# Altium integrated library NXP_60_26022015.IntLib: 1306 symbols (part 7 of 28)
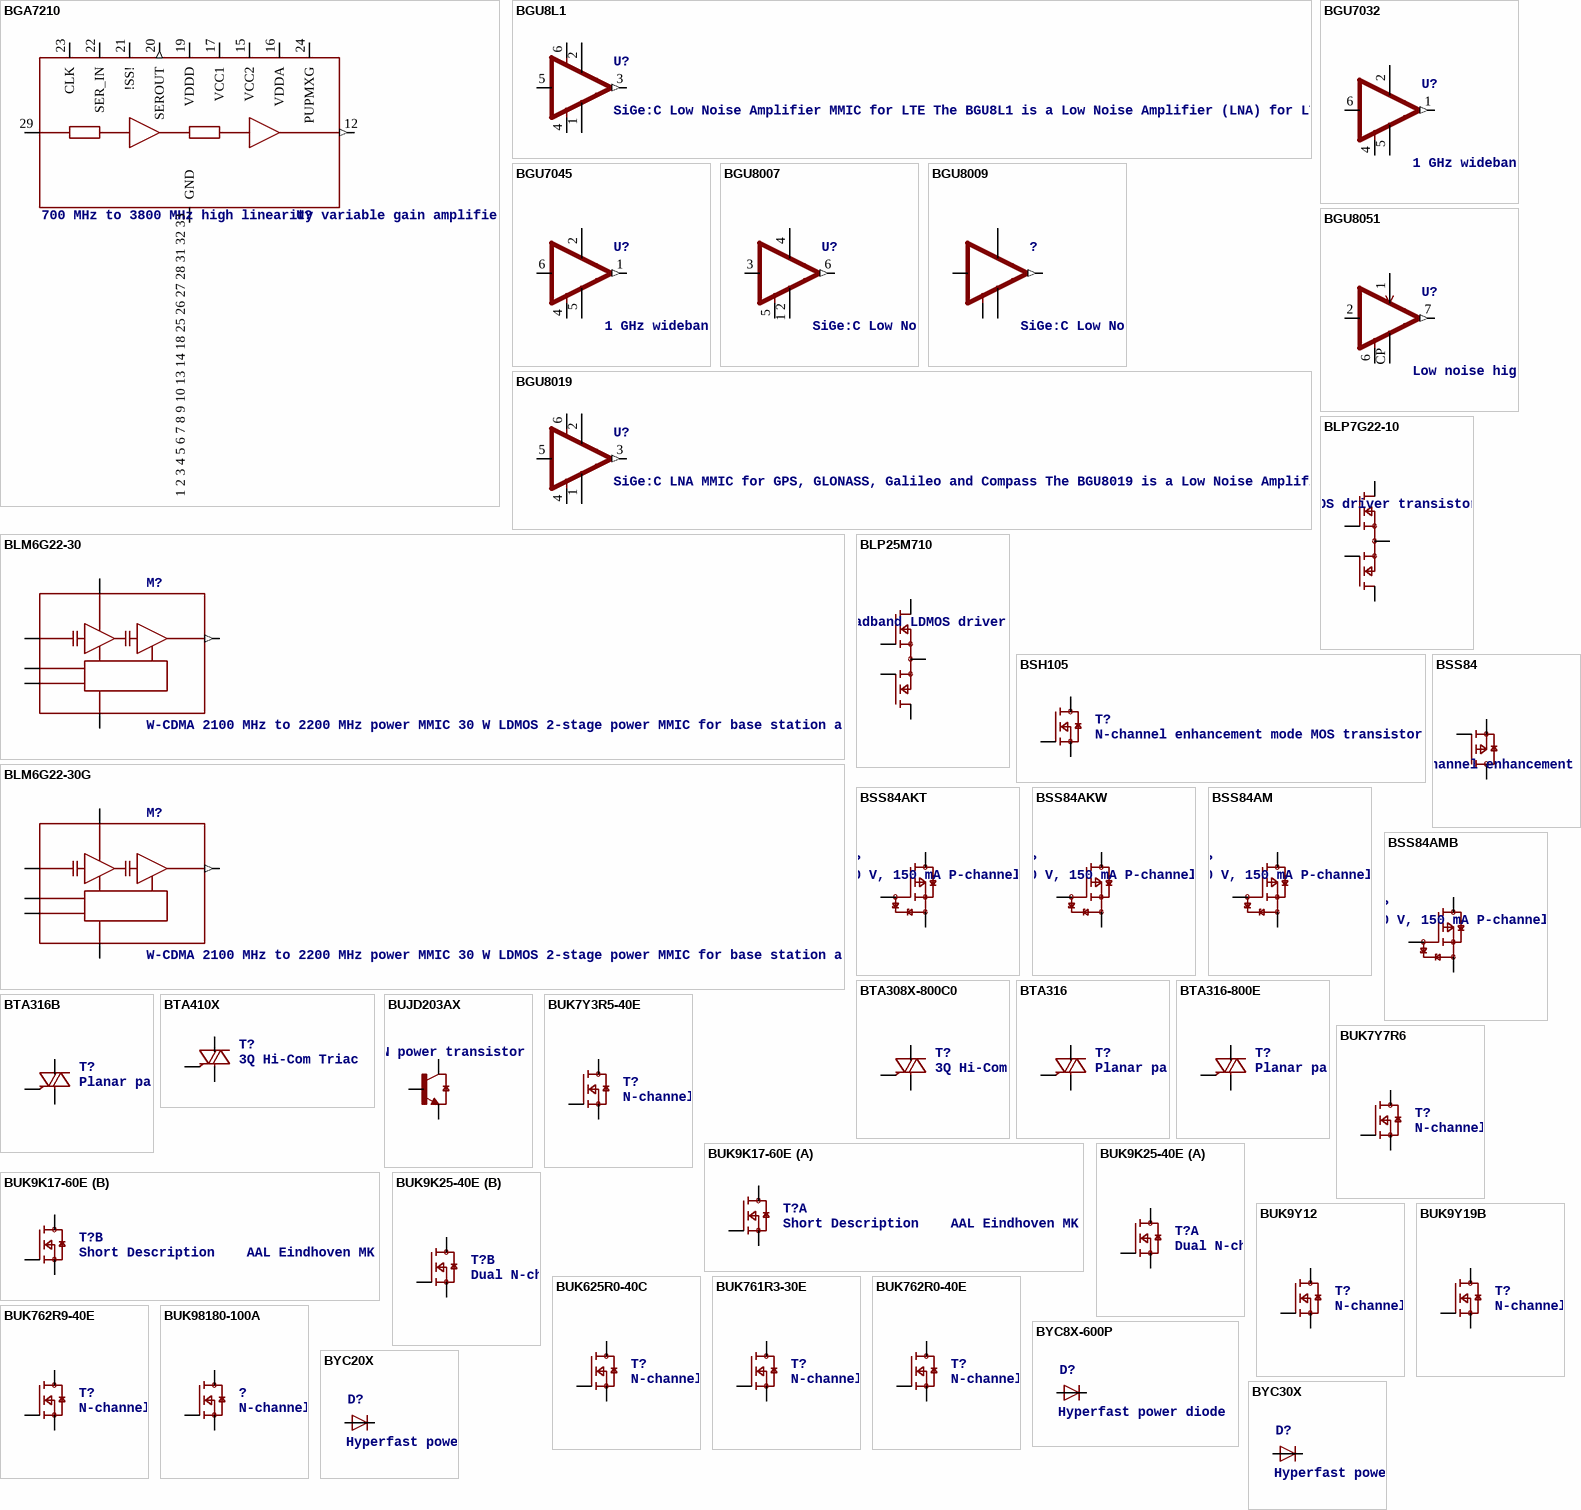
[diagram p191: symbols BGA7210 to BYC30X]

## BGU8L1
designator U?, comment SiGe:C Low Noise Amplifier MMIC for LTE The BGU8L1 is a Low Noise Amplifier (LNA) for LTE receiver applications, available in a small plastic 6-pin extremely thin leadless package. The BGU8L1 requires one external matching inductor. The BGU8L1 adapts itself to the changing environment resulting from co-habitation of different radio systems in modern cellular handsets. It has been designed for low power consumption and optimal performance. At low jamming power levels it delivers 14 dB gain at a noise figure of 0.7 dB. During high power levels, it temporarily increases its bias current to improve sensitivity. The BGU8L1 is optimized for 728 MHz to 960 MHz.   AAL Eindhoven MK
footprint SOT1232
pins: 1 GND (power), 2 VCC (power), 3 OUT (out), 4 GND1 (power), 5 IN, 6 EN

## BGU7032
designator U?, comment 1 GHz wideband low-noise amplifier with bypass The BGU7032 MMIC is a wideband amplifier with bypass mode. It is designed specifically for high linearity, low-noise applications over a frequency range of 40 MHz to 1 GHz. It is especially suited to Set-Top Box applications. The LNA is housed in a 6-pin SOT363 plastic SMD package.    AAL Eindhoven MK
footprint SOT363
pins: 1 OUT (out), 2 VCC (power), 4 CTRL, 5 GND (power), 6 IN

## BGU7045
designator U?, comment 1 GHz wideband low-noise amplifier with bypass The BGU7045 MMIC is a 3.3 V wideband amplifier with bypass mode. It is designed specifically for high linearity, low-noise applications over a frequency range of 40 MHz to 1 GHz. It is especially suited for Set-Top Box applications. The LNA is housed in a 6-pin SOT363 plastic SMD package.    AAL Eindhoven MK
footprint SOT363
pins: 1 OUT (out), 2 VCC (power), 4 CTRL, 5 GND (power), 6 IN

## BGU8007
designator U?, comment SiGe:C Low Noise Amplifier MMIC for GPS, GLONASS, Galileo and Compass The BGU8007 is a Low Noise Amplifier (LNA) for GNSS receiver applications in a plastic leadless 6-pin, extremely small SOT886 package. The BGU8007 requires only one external matching inductor and one external decoupling capacitor. The BGU8007 adapts itself to the changing environment resulting from co-habitation of different radio systems in modern cellular handsets. It has been designed for low power consumption and optimal performance when jamming signals from co-existing cellular transmitters are present. At low jamming power levels it delivers 19 dB gain at a noise figure of 0.75 dB. During high jamming power levels, resulting for example from a cellular transmit burst, it temporarily increases its bias current to improve sensitivity    AAL Eindhoven MK
footprint SOT886
pins: 1 2 GND (power), 3 IN, 4 VCC (power), 5 EN, 6 OUT (out)

## BGU8009
designator ?, comment SiGe:C Low Noise Amplifier MMIC for GPS, GLONASS, Galileo and Compass Rev. 2 — 19 June 2 The BGU8009 is a Low Noise Amplifier (LNA) for GNSS receiver applications, available in a small plastic 6-pin extremely thin leadless package. The BGU8009 requires one external matching inductor and one external decoupling capacitor. The BGU8009 adapts itself to the changing environment resulting from co-habitation of different radio systems in modern cellular handsets. It has been designed for low power consumption and optimal performance when jamming signals from co-existing cellular transmitters are present. At low jamming power levels it delivers 18 dB gain at a noise figure of 0.65 dB. During high jamming power levels, resulting for example from a cellular transmit burst, it temporarily increases its bias current to improve sensitivity    AAL Eindhoven MK
pins: ?1 IN, ?2 OUT (out), ?3 VCC (power), ?4 GND (power), ?5 EN

## BGU8019
designator U?, comment SiGe:C LNA MMIC for GPS, GLONASS, Galileo and Compass The BGU8019 is a Low Noise Amplifier (LNA) for GNSS receiver applications, available in a small plastic 6-pin extremely thin leadless package. The BGU8019 requires one external matching inductor. The BGU8019 adapts itself to the changing environment resulting from co-habitation of different radio systems in modern cellular handsets. It has been designed for low power consumption and optimal performance when jamming signals from co-existing cellular transmitters are present. At low jamming power levels it delivers 18.5 dB gain at a noise figure of 0.55 dB. During high jamming power levels, resulting for example from a cellular transmit burst, it temporarily increases its bias current to improve sensitivity.   AAL Eindhoven MK
footprint SOT1232
pins: 1 GND (power), 2 VCC (power), 3 OUT (out), 4 GND1 (power), 5 IN, 6 EN

## BGU8051
designator U?, comment Low noise high linearity amplifier The BGU8051 is a low noise high linearity amplifier for wireless infrastructure applications, equipped with fast shutdown to support TDD systems. The LNA has a high input and output return loss and is designed to operate between 0.3 GHz and 1.5 GHz. It is housed in a 2 mm x 2 mm x 0.75 mm 8-terminal plastic thin small outline package. The LNA is ESD protected on all terminals.   AAL Eindhoven MK
footprint SOT1327-1
pins: 1 VBIAS, 2 IN, 6 SHDN, 7 OUT (out), CP GND (power)

## BLM6G22-30
designator M?, comment W-CDMA 2100 MHz to 2200 MHz power MMIC 30 W LDMOS 2-stage power MMIC for base station applications at frequencies from 2100 MHz to 2200 MHz. Available in gull wing for surface mount (!SOT822-1!) or flat lead (SOT834-1).    AAL Eindhoven MK
footprint SOT834-1
pins: 1 11 12 16 GND (power), 2 VDS1 (power), 6 RFIN, 9 VGS1, 10 VGS2, 14 RFOUT (out)

## BLM6G22-30G
designator M?, comment W-CDMA 2100 MHz to 2200 MHz power MMIC 30 W LDMOS 2-stage power MMIC for base station applications at frequencies from 2100 MHz to 2200 MHz. Available in gull wing for surface mount (!SOT822-1!) or flat lead (SOT834-1).    AAL Eindhoven MK
footprint SOT822-1
pins: 1 11 12 16 CP GND (power), 2 VDS1 (power), 6 RFIN, 9 VGS1, 10 VGS2, 14 RFOUT (out)

## BLP7G22-10
designator T?, comment LDMOS driver transistor 10W plastic LDMOS power transistor for base station applications at frequencies from 700 MHz to 2700 MHz.    AAL Eindhoven MK
footprint SOT1179-2
pins: 2 3 G1, 4 5 G2, 8 9 D2, 10 11 D1, CP S

## BLP25M710
designator T?, comment Broadband LDMOS driver transistor A 10 W LDMOS power transistor for broadcast and industrial applications in the HF to 2500 MHz band.    AAL Eindhoven MK
footprint SOT1179-2
pins: 2 3 G1, 4 5 G2, 8 9 D2, 10 11 D1, CP S

## BSH105
designator T?, comment N-channel enhancement mode MOS transistor
footprint SOT23
pins: 1 G, 2 S, 3 D

## BSS84
designator T?, comment P-channel enhancement mode vertical DMOS transistor P-channel enhancement mode vertical Diffusion Metal-Oxide Semiconductor (DMOS) transistor in a small Surface-Mounted Device (SMD) plastic package.    AAL Eindhoven MK
footprint SOT23
pins: 1 G, 2 S, 3 D

## BSS84AKT
designator T?, comment 50 V, 150 mA P-channel Trench MOSFET P-channel enhancement mode Field-Effect Transistor (FET) in a small Surface-Mounted Device (SMD) plastic package using Trench MOSFET technology.    AAL Eindhoven MK
footprint SOT416
pins: 1 G, 2 S, 3 D

## BSS84AKW
designator T?, comment 50 V, 150 mA P-channel Trench MOSFET P-channel enhancement mode Field-Effect Transistor (FET) in a small Surface-Mounted Device (SMD) plastic package using Trench MOSFET technology.    AAL Eindhoven MK
footprint SOT323
pins: 1 G, 2 S, 3 D

## BSS84AM
designator T?, comment 50 V, 150 mA P-channel Trench MOSFET P-channel enhancement mode Field-Effect Transistor (FET) in a small Surface-Mounted Device (SMD) plastic package using Trench MOSFET technology.    AAL Eindhoven MK
footprint SOT883(B)
pins: 1 G, 2 S, 3 D

## BSS84AMB
designator T?, comment 50 V, 150 mA P-channel Trench MOSFET P-channel enhancement mode Field-Effect Transistor (FET) in a small Surface-Mounted Device (SMD) plastic package using Trench MOSFET technology.    AAL Eindhoven MK
footprint SOT883(B)
pins: 1 G, 2 S, 3 D

## BTA308X-800C0
designator T?, comment 3Q Hi-Com Triac Planar passivated high commutation three quadrant triac in a SOT186A "full pack" plastic package. This triac is intended for use in motor control circuits where high blocking voltage, high static and dynamic dV/dt as well as high dIcom/dt can occur. This "series C0" triac will commutate the full rated RMS current at the maximum rated junction temperature without the aid of a snubber.    AAL Eindhoven MK
footprint SOT186A
pins: 1 T1, 2 T2, 3 G

## BTA316
designator T?, comment Planar passivated high commutation three quadrant triac in a SOT78 plastic package intended for use in circuits where high static and dynamic dV/dt and high dI/dt can occur   AAL Eindhoven MV+ MK
12NC: 9340 600 72127; 12NC: 9340 600 79127; 12NC: 9340 600 74127; 12NC: 9340 600 76127; 12NC: 9340 600 77127; 12NC: 9340 646 18127; 12NC: 9340 600 73127; 12NC: 9340 600 75127; 12NC: 9340 600 78127; 12NC: 9340 646 19127
footprint SOT78A
pins: 1 T1, 2 T2, 3 G

## BTA316-800E
designator T?, comment Planar passivated high commutation three quadrant triac in a SOT78 plastic package intended for use in circuits where high static and dynamic dV/dt and high dI/dt can occur   AAL Eindhoven MV+ MK
SAMPLEDESK: 12NC934060078127
footprint SOT78A
pins: 1 T1, 2 T2, 3 G

## BTA316B
designator T?, comment Planar passivated high commutation three quadrant triac in a SOT78 plastic package intended for use in circuits where high static and dynamic dV/dt and high dI/dt can occur   AAL Eindhoven MV+ MK
12NC: 9340 601 04118; 12NC: 9340 601 06118; 12NC: 9340 601 08118; 12NC: 9340 601 05118; 12NC: 9340 601 07118; 12NC: 9340 601 09118
footprint SOT404
pins: 1 T1, 3 G, MB T2

## BTA410X
designator T?, comment 3Q Hi-Com Triac
footprint SOT186A
pins: 1 T1, 2 T2, 3 G

## BUJD203AX
designator T?, comment NPN power transistor with integrated diode High voltage, high speed, planar passivated NPN power switching transistor with integrated anti-parallel E-C diode in a SOT186A (TO220F) full pack plastic package.    AAL Eindhoven MK
footprint SOT186A
pins: 1 B, 2 C, 3 E

## BUK7Y3R5-40E
designator T?, comment N-channel 40 V, 3.5 mΩ standard level MOSFET in LFPAK56 Standard level N-channel MOSFET in an LFPAK56 (Power SO8) package using TrenchMOS technology. This product has been designed and qualified to AEC Q101 standard for use in high performance automotive applications.    AAL Eindhoven MK
footprint SOT669
pins: 1 2 3 S, 4 G, MB D

## BUK7Y7R6
designator T?, comment N-channel 40 V, 7.6 mΩ standard level MOSFET in LFPAK56 Standard level N-channel MOSFET in an LFPAK56 (Power SO8) package using TrenchMOS technology. This product has been designed and qualified to AEC Q101 standard for use in high performance automotive applications.   AAL Eindhoven MK
footprint SOT669
pins: 1 2 3 S, 4 G, MB D

## BUK9K17-60E
designator T?, comment Short Description    AAL Eindhoven MK
footprint SOT1205
part A pins: 1 S, 2 G, 7 8 S1 D
part B pins: 3 S, 4 G, 5 6 S2 D

## BUK9K25-40E
designator T?, comment Dual N-channel 40 V, 29 mΩ logic level MOSFET  Dual logic level N-channel MOSFET in an LFPAK56D (Dual Power-SO8) package using TrenchMOS technology. This product has been designed and qualified to AEC Q101 standard for use in high performance automotive applications.    AAL Eindhoven MK
footprint SOT1205
part A pins: 1 S, 2 G, 7 8 S1 D
part B pins: 3 S, 4 G, 5 6 S2 D

## BUK9Y12
designator T?, comment N-channel 100 V, 12 mΩ logic level MOSFET in LFPAK56 Logic level N-channel MOSFET in an LFPAK56 (Power SO8) package using TrenchMOS technology. This product has been designed and qualified to AEC Q101 standard for use in high performance automotive applications.   AAL Eindhoven MK
footprint SOT669
pins: 1 2 3 S, 4 G, MB D

## BUK9Y19B
designator T?, comment N-channel TrenchMOS logic level FET Logic level N-channel enhancement mode Field-Effect Transistor (FET) in a plastic package using TrenchMOS technology.    This product has been designed and qualified to the appropriate AEC standard for use in automotive critical applications.   AAL Eindhoven MK
footprint SOT669
pins: 1 2 3 S, 4 G, MB D

## BUK625R0-40C
designator T?, comment N-channel TrenchMOS intermediate level FET Intermediate level gate drive N-channel enhancement mode Field-Effect Transistor (FET) in a plastic package using advanced TrenchMOS technology. This product has been designed and qualified to the appropriate AEC Q101 standard for use in high performance automotive applications.   AAL Eindhoven MK
footprint SOT428
pins: 1 G, 3 S, MB D

## BUK761R3-30E
designator T?, comment N-channel TrenchMOS standard level FET Standard level N-channel MOSFET in a SOT404 package using TrenchMOS technology. This product has been designed and qualified to AEC Q101 standard for use in high performance automotive applications.   AAL Eindhoven MK
footprint SOT404
pins: 1 G, 3 S, MB D

## BUK762R0-40E
designator T?, comment N-channel TrenchMOS standard level FET Standard level N-channel MOSFET in a SOT404 package using TrenchMOS technology. This product has been designed and qualified to AEC Q101 standard for use in high performance automotive applications.    AAL Eindhoven MK
footprint SOT404
pins: 1 G, 3 S, MB D

## BUK762R9-40E
designator T?, comment N-channel TrenchMOS standard level FET Standard level N-channel MOSFET in a SOT404 package using TrenchMOS technology. This product has been designed and qualified to AEC Q101 standard for use in high performance automotive applications.    AAL Eindhoven MK
footprint SOT404
pins: 1 G, 3 S, MB D

## BUK98180-100A
designator ?, comment N-channel TrenchMOS logic level FET Logic level N-channel enhancement mode Field-Effect Transistor (FET) in a plastic package using TrenchMOS technology. This product has been designed and qualified to the appropriate AEC standard for use in automotive critical applications.    AAL Eindhoven MK
footprint SOT223
pins: 1 G, 2 4 D, 3 S

## BYC8X-600P
designator D?, comment Hyperfast power diode
footprint SOD113
pins: 1 K, 2 A

## BYC20X
designator D?, comment Hyperfast power diode Hyperfast power diode in a SOD113 (2-lead TO-220F) plastic package.    AAL Eindhoven MK
footprint SOD113
pins: 1 K, 2 A

## BYC30X
designator D?, comment Hyperfast power diode Hyperfast power diode in a SOD113 (2-lead TO-220F) plastic package.    AAL Eindhoven MK
footprint SOD113
pins: 1 K, 2 A

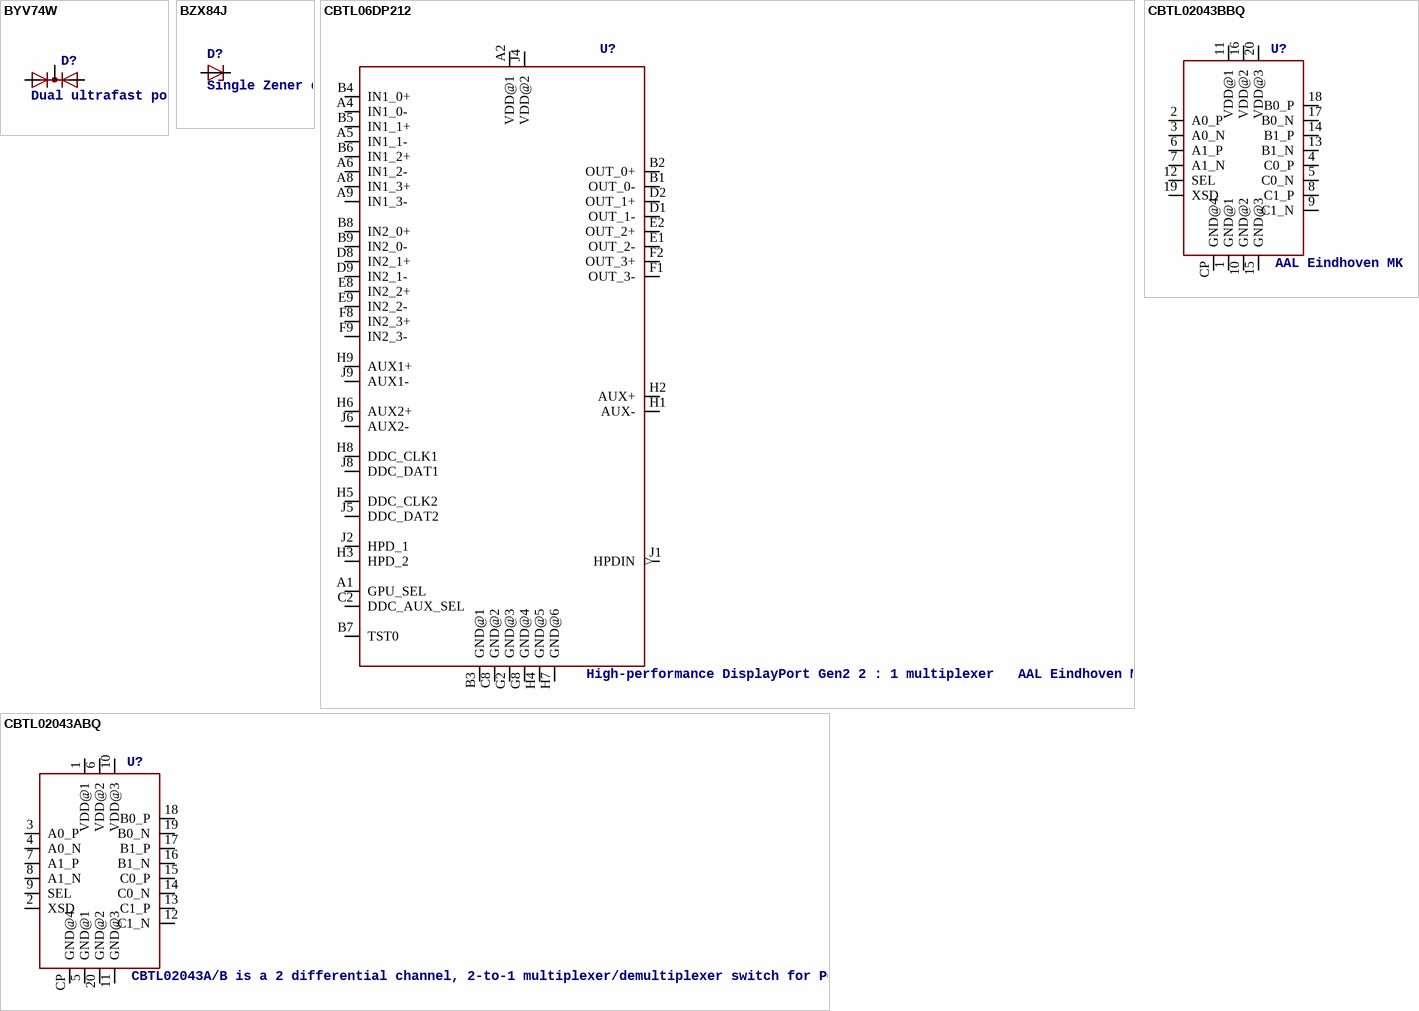
[diagram p35: symbols BYV74W to CBTL02043BBQ]

## BYV74W
designator D?, comment Dual ultrafast power diode Dual ultrafast power diode in a SOT429 (3-lead TO-247) plastic package.    AAL Eindhoven MK
footprint SOT429
pins: 1 A1, 2 K1K2, 3 A2

## BZX84J
designator D?, comment Single Zener diodes General-purpose Zener diodes in a SOD323F (SC-90) very small and flat lead Surface-Mounted Device (SMD) plastic package.    AAL Eindhoven MK
footprint SOD323(F)
pins: 1 C, 2 A

## CBTL06DP212
designator U?, comment High-performance DisplayPort Gen2 2 : 1 multiplexer   AAL Eindhoven MK
footprint SOT918-1
pins: A1 GPU_SEL, A2 VDD@1 (power), A4 IN1_0-, A5 IN1_1-, A6 IN1_2-, A8 IN1_3+, A9 IN1_3-, B1 OUT_0-, B2 OUT_0+, B3 GND@1 (power), B4 IN1_0+, B5 IN1_1+, B6 IN1_2+, B7 TST0, B8 IN2_0+, B9 IN2_0-, C2 DDC_AUX_SEL, C8 GND@2 (power), D1 OUT_1-, D2 OUT_1+, D8 IN2_1+, D9 IN2_1-, E1 OUT_2-, E2 OUT_2+, E8 IN2_2+, E9 IN2_2-, F1 OUT_3-, F2 OUT_3+, F8 IN2_3+, F9 IN2_3-, G2 GND@3 (power), G8 GND@4 (power), H1 AUX-, H2 AUX+, H3 HPD_2, H4 GND@5 (power), H5 DDC_CLK2, H6 AUX2+, H7 GND@6 (power), H8 DDC_CLK1, H9 AUX1+, J1 HPDIN (out), J2 HPD_1, J4 VDD@2 (power), J5 DDC_DAT2, J6 AUX2-, J8 DDC_DAT1, J9 AUX1-

## CBTL02043ABQ
designator U?, comment CBTL02043A/B is a 2 differential channel, 2-to-1 multiplexer/demultiplexer switch for PCI Express Generation 3 (Gen3), or other high-speed serial interface applications. The CBTL02043A/B can switch two differential signals to one of two locations. Using a unique design technique, NXP has minimized the impedance of the switch such that the attenuation observed through the switch is negligible, and also minimized the channel-to-channel skew as well as channel-to-channel crosstalk, as required by the high-speed serial interface. CBTL02043A/B allows expansion of existing high speed ports for extremely low power.   AAL Eindhoven MK
footprint SOT764
pins: 1 VDD@1, 2 XSD, 3 A0_P, 4 A0_N, 5 GND@1, 6 VDD@2, 7 A1_P, 8 A1_N, 9 SEL, 10 VDD@3, 11 GND@3, 12 C1_N, 13 C1_P, 14 C0_N, 15 C0_P, 16 B1_N, 17 B1_P, 18 B0_P, 19 B0_N, 20 GND@2, CP GND@4

## CBTL02043BBQ
designator U?, comment AAL Eindhoven MK
footprint SOT764
pins: 1 GND@1, 2 A0_P, 3 A0_N, 4 C0_P, 5 C0_N, 6 A1_P, 7 A1_N, 8 C1_P, 9 C1_N, 10 GND@2, 11 VDD@1, 12 SEL, 13 B1_N, 14 B1_P, 15 GND@3, 16 VDD@2, 17 B0_N, 18 B0_P, 19 XSD, 20 VDD@3, CP GND@4

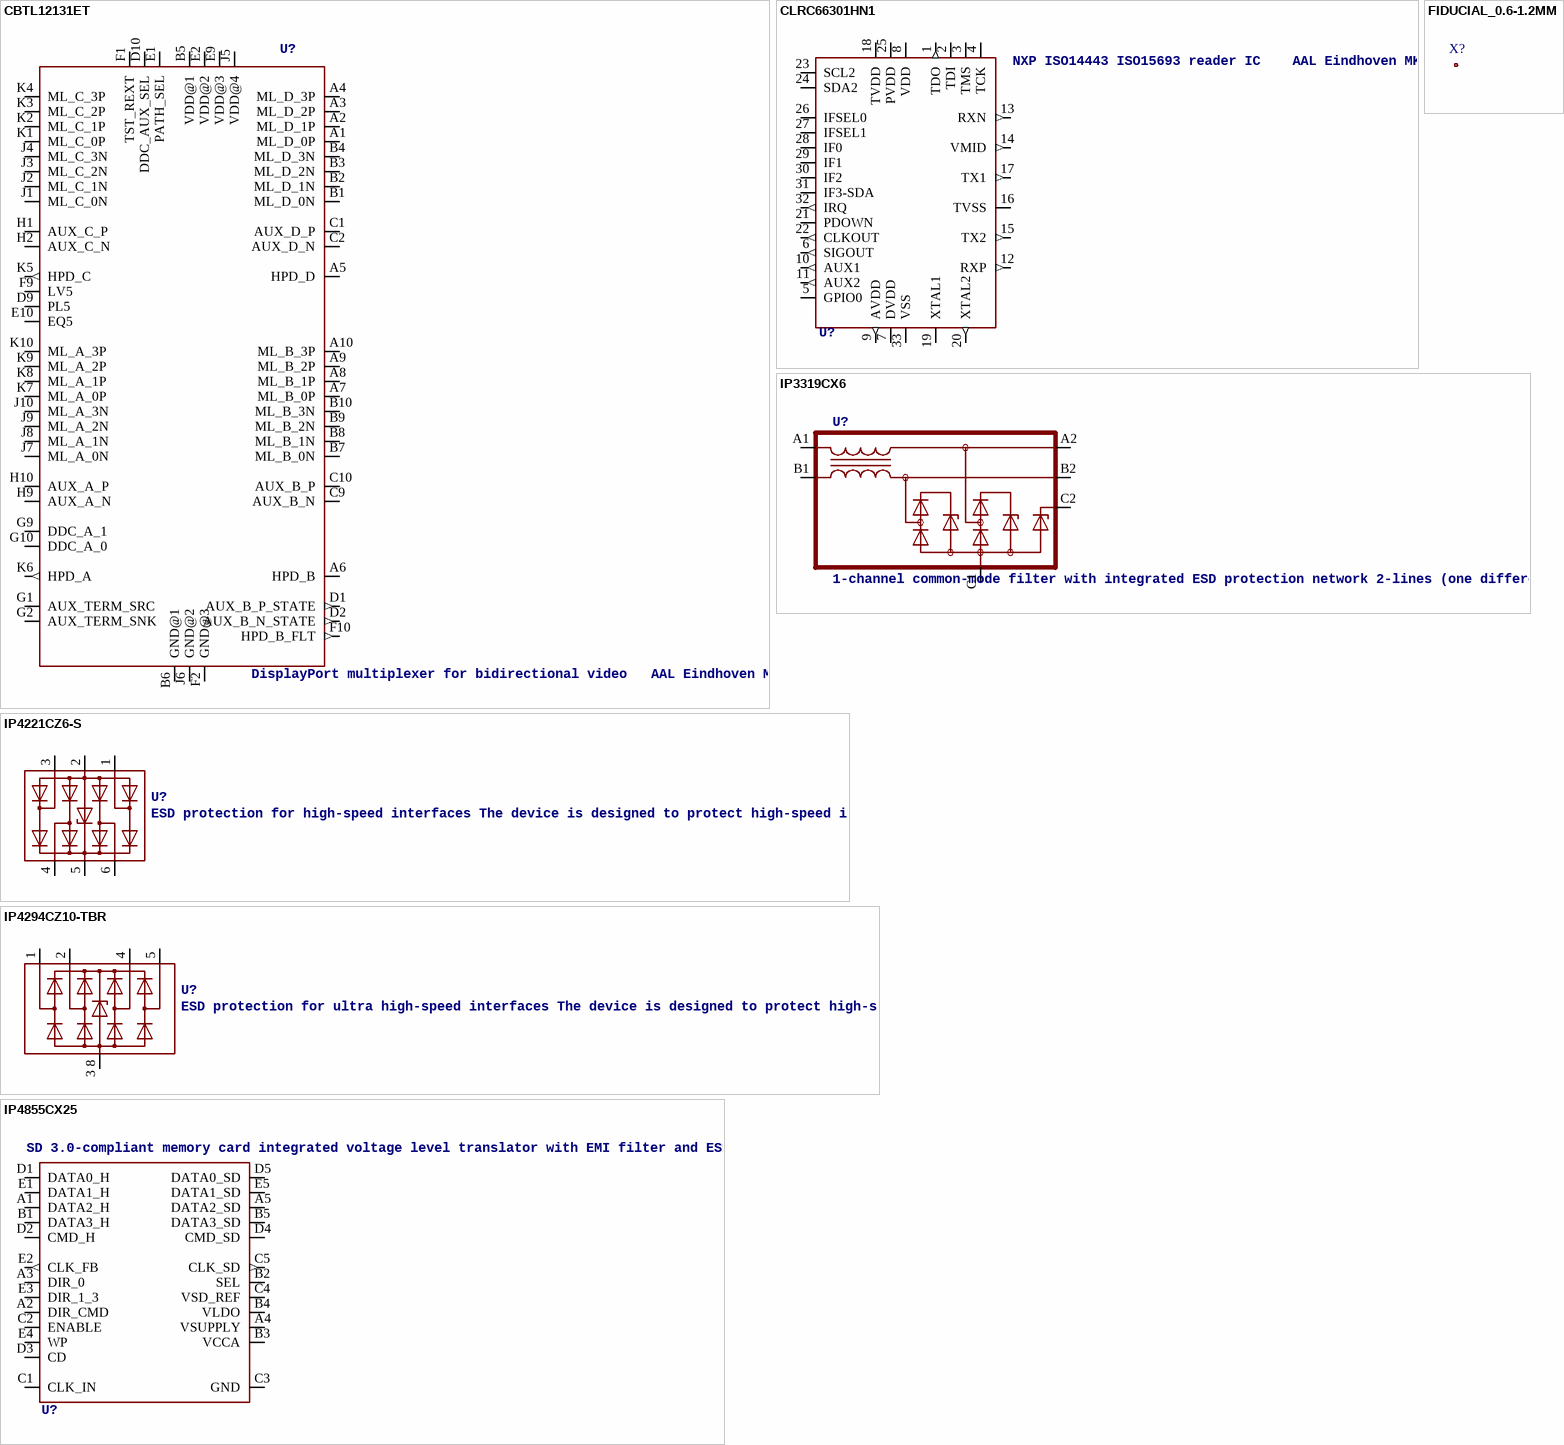
[diagram p36: symbols CBTL12131ET to IP4855CX25]

## CBTL12131ET
designator U?, comment DisplayPort multiplexer for bidirectional video   AAL Eindhoven MK
footprint SOT543-1
pins: A1 ML_D_0P, A2 ML_D_1P, A3 ML_D_2P, A4 ML_D_3P, A5 HPD_D, A6 HPD_B, A7 ML_B_0P, A8 ML_B_1P, A9 ML_B_2P, A10 ML_B_3P, B1 ML_D_0N, B2 ML_D_1N, B3 ML_D_2N, B4 ML_D_3N, B5 VDD@1 (power), B6 GND@1 (power), B7 ML_B_0N, B8 ML_B_1N, B9 ML_B_2N, B10 ML_B_3N, C1 AUX_D_P, C2 AUX_D_N, C9 AUX_B_N, C10 AUX_B_P, D1 AUX_B_P_STATE (out), D2 AUX_B_N_STATE (out), D9 PL5, D10 DDC_AUX_SEL, E1 PATH_SEL, E2 VDD@2 (power), E9 VDD@3 (power), E10 EQ5, F1 TST_REXT, F2 GND@3 (power), F9 LV5, F10 HPD_B_FLT (out), G1 AUX_TERM_SRC, G2 AUX_TERM_SNK, G9 DDC_A_1, G10 DDC_A_0, H1 AUX_C_P, H2 AUX_C_N, H9 AUX_A_N, H10 AUX_A_P, J1 ML_C_0N, J2 ML_C_1N, J3 ML_C_2N, J4 ML_C_3N, J5 VDD@4 (power), J6 GND@2 (power), J7 ML_A_0N, J8 ML_A_1N, J9 ML_A_2N, J10 ML_A_3N, K1 ML_C_0P, K2 ML_C_1P, K3 ML_C_2P, K4 ML_C_3P, K5 HPD_C (out), K6 HPD_A (out), K7 ML_A_0P, K8 ML_A_1P, K9 ML_A_2P, K10 ML_A_3P

## CLRC66301HN1
designator U?, comment NXP ISO14443 ISO15693 reader IC    AAL Eindhoven MK
footprint SOT617-1
pins: 1 TDO (out), 2 TDI, 3 TMS, 4 TCK, 5 GPIO0, 6 SIGOUT (out), 7 DVDD (power), 8 VDD (power), 9 AVDD (out), 10 AUX1 (out), 11 AUX2 (out), 12 RXP (out), 13 RXN (out), 14 VMID (out), 15 TX2 (out), 16 TVSS (power), 17 TX1 (out), 18 TVDD (power), 19 XTAL1, 20 XTAL2 (out), 21 PDOWN, 22 CLKOUT (out), 23 SCL2, 24 SDA2, 25 PVDD (power), 26 IFSEL0, 27 IFSEL1, 28 IF0, 29 IF1, 30 IF2, 31 IF3-SDA, 32 IRQ (out), 33 VSS (power)

## FIDUCIAL_0.6-1.2MM
designator X?
footprint FIDUCIAL0.6-1.2

## IP3319CX6
designator U?, comment 1-channel common-mode filter with integrated ESD protection network 2-lines (one differential channel) common-mode filter with integrated ESD protection up to 15 kV contact discharge, exceeding IEC 61000-4-2, level 4. The device can eliminate efficiently common-mode noise from USB 2.0 and other high-speed interfaces with differential lines. IP3319CX6 attenuates significantly common-mode noise above 800 MHz while differential-mode signal extends out to more than 1 GHz before reaching the 3 dB point. IP3319CX6 is designed to protect sensitive I/Os, such as USB 2.0, Ethernet, Digital Video Interface (DVI) and Low-Voltage Differential Signaling (LVDS) interfaces from destruction by ElectroStatic Discharge (ESD). IP3319CX6 is a combination of an integrated copper-coils common-mode filter and a monolithic silicon technology-based ESD protection. It integrates two ultra-low capacitance rail-to-rail diodes plus a separated protection diode in a 0.4 mm pitch Wafer-Level Chip-Size Package (WLCSP). Due to the rail-to-rail concept, the protection is working independently from availability of a supply voltage.    AAL Eindhoven MK
footprint WLCSP6_2X3
pins: A1, A2, B1, B2, C1 (power), C2

## IP4221CZ6-S
designator U?, comment ESD protection for high-speed interfaces The device is designed to protect high-speed interfaces such as USB 2.0, Ethernet and Digital Visual Interface (DVI) against ElectroStatic Discharge (ESD). The device includes four high-level ESD protection diode structures for high-speed signal lines and is encapsulated in a leadless ultra small DFN1410-6 (SOT886) plastic package. Special diode configuration protects all signal lines and offers ultra low line capacitance of only 1 pF. The rail-to-rail diodes are connected to the Zener diode which allows ESD protection to be independent of supply voltage.    AAL Eindhoven MK
footprint SOT886
pins: 1 ESD3, 2 GND (power), 3 ESD4, 4 ESD1, 5 VCC (power), 6 ESD2

## IP4294CZ10-TBR
designator U?, comment ESD protection for ultra high-speed interfaces The device is designed to protect high-speed interfaces such as SuperSpeed USB, High-Definition Multimedia Interface (HDMI), DisplayPort, external Serial Advanced Technology Attachment (eSATA) and Low Voltage Differential Signaling (LVDS) interfaces against ElectroStatic Discharge (ESD). The device includes four high-level ESD protection diode structures for ultra high-speed signal lines and is encapsulated in leadless ultra small DFN2510A-10 (SOT1176-1) plastic package. All signal lines are protected by a special diode configuration offering ultra low line capacitance of only 0.5 pF. These diodes utilize a unique snap-back structure in order to provide protection to downstream components from ESD voltages up to 10 kV contact exceeding IEC 61000-4-2, level 4. In order to reduce the capacitance variation versus channel DC voltage, the ground diodes between each channel and ground pins 3 and 8 are implemented as Shockley diodes.    AAL Eindhoven MK
footprint SOT1176
pins: 1 ESD1, 2 ESD2, 3 8 GND (power), 4 ESD3, 5 ESD4

## IP4855CX25
designator U?, comment SD 3.0-compliant memory card integrated voltage level translator with EMI filter and ESD protection The device is an SD 3.0-compliant 6-bit bidirectional dual voltage level translator. It is designed to interface between a memory card operating at 1.8 V or 2.9 V signal levels and a host with a fixed nominal supply voltage of 1.2 V to 3.3 V. The device supports SD 3.0 SDR50, DDR50, SDR25, SDR12 and SD 2.0 High-Speed (50 MHz) and Default-Speed (25 MHz) modes. The device has an integrated switchable voltage regulator to supply the card-side I/Os, built-in EMI filters and robust ESD protections (IEC 61000-4-2, level 4).    AAL Eindhoven MK
footprint WLCSP25
pins: A1 DATA2_H, A2 DIR_CMD, A3 DIR_0, A4 VSUPPLY (power), A5 DATA2_SD, B1 DATA3_H, B2 SEL, B3 VCCA (power), B4 VLDO (power), B5 DATA3_SD, C1 CLK_IN, C2 ENABLE, C3 GND (power), C4 VSD_REF, C5 CLK_SD (out), D1 DATA0_H, D2 CMD_H, D3 CD, D4 CMD_SD, D5 DATA0_SD, E1 DATA1_H, E2 CLK_FB (out), E3 DIR_1_3, E4 WP, E5 DATA1_SD

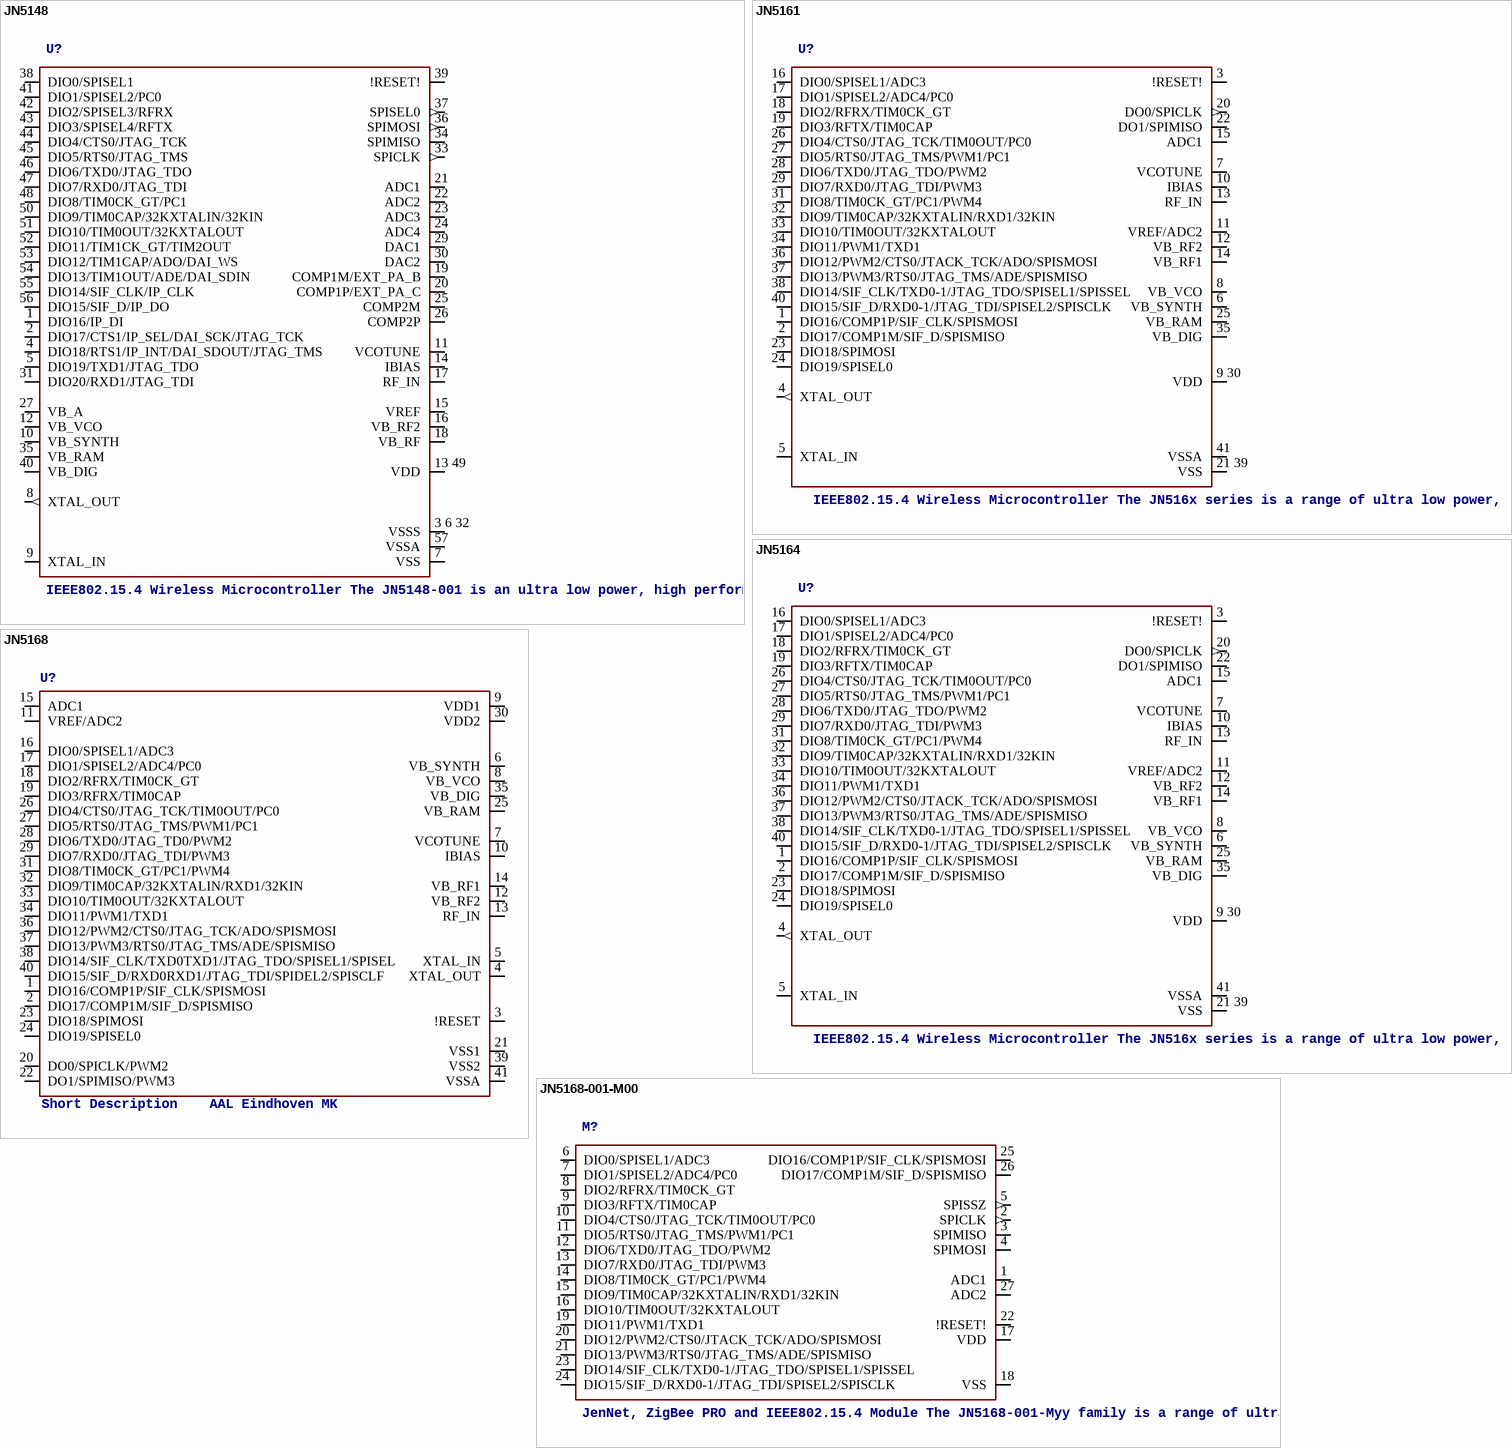
[diagram p37: symbols JN5148 to JN5168-001-M00]

## JN5148
designator U?, comment IEEE802.15.4 Wireless Microcontroller The JN5148-001 is an ultra low power, high performance wireless microcontroller targeted at JenNet and ZigBee PRO networking applications. The device features an enhanced 32-bit RISC processor offering high coding efficiency through variable width instructions, a multistage instruction pipeline and low power operation with programmable clock speeds. It also includes a 2.4GHz IEEE802.15.4 compliant transceiver, 128kB of ROM, 128kB of RAM, and a rich mix of analogue and digital peripherals. The large memory footprint allows the device to run both a network stack (e.g. ZigBee PRO) and an embedded application or in a coprocessor mode. The operating current is below 18mA, allowing operation direct from a coin cell. Enhanced peripherals include low power pulse counters running in sleep mode designed for pulse counting in AMR applications and a unique Time of Flight ranging engine, allowing accurate location services to be implemented on wireless sensor networks. It also includes a 4-wire I2S audio interface, to interface directly    AAL Eindhoven MK
footprint SOT684
pins: 1 DIO16/IP_DI, 2 DIO17/CTS1/IP_SEL/DAI_SCK/JTAG_TCK, 3 6 32 VSSS, 4 DIO18/RTS1/IP_INT/DAI_SDOUT/JTAG_TMS, 5 DIO19/TXD1/JTAG_TDO, 7 VSS (power), 8 XTAL_OUT (out), 9 XTAL_IN, 10 VB_SYNTH (power), 11 VCOTUNE, 12 VB_VCO (power), 13 49 VDD, 14 IBIAS, 15 VREF, 16 VB_RF2 (power), 17 RF_IN, 18 VB_RF (power), 19 COMP1M/EXT_PA_B, 20 COMP1P/EXT_PA_C, 21 ADC1, 22 ADC2, 23 ADC3, 24 ADC4, 25 COMP2M, 26 COMP2P, 27 VB_A (power), 29 DAC1, 30 DAC2, 31 DIO20/RXD1/JTAG_TDI, 33 SPICLK (out), 34 SPIMISO, 35 VB_RAM (power), 36 SPIMOSI (out), 37 SPISEL0 (out), 38 DIO0/SPISEL1, 39 !RESET!, 40 VB_DIG (power), 41 DIO1/SPISEL2/PC0, 42 DIO2/SPISEL3/RFRX, 43 DIO3/SPISEL4/RFTX, 44 DIO4/CTS0/JTAG_TCK, 45 DIO5/RTS0/JTAG_TMS, 46 DIO6/TXD0/JTAG_TDO, 47 DIO7/RXD0/JTAG_TDI, 48 DIO8/TIM0CK_GT/PC1, 50 DIO9/TIM0CAP/32KXTALIN/32KIN, 51 DIO10/TIM0OUT/32KXTALOUT, 52 DIO11/TIM1CK_GT/TIM2OUT, 53 DIO12/TIM1CAP/ADO/DAI_WS, 54 DIO13/TIM1OUT/ADE/DAI_SDIN, 55 DIO14/SIF_CLK/IP_CLK, 56 DIO15/SIF_D/IP_DO, 57 VSSA (power)

## JN5161
designator U?, comment IEEE802.15.4 Wireless Microcontroller The JN516x series is a range of ultra low power, high performance wireless microcontrollers suitable for JenNet-IP, ZigBee PRO, Remote Control, JenNet, and Active RFID applications. They feature an enhanced 32-bit RISC processor with embedded Flash and EEPROM memory, offering high coding efficiency through variable width instructions, a multi-stage instruction pipeline and low power operation with programmable clock speeds. They also include a 2.4GHz IEEE802.15.4 compliant transceiver and a comprehensive mix of analogue and digital peripherals. Three memory configurations are available to suit different applications. The best in class operating current is below 15mA, and, with a 0.6uA sleep timer mode, gives excellent battery life allowing operation direct from a coin cell. The peripherals support a wide range of applications. They include a 2-wire I2C, and SPI ports which can operate as either master or slave, a four channel ADC with battery and a temperature sensor. It can support a large switch matrix of up to 100 elements, or alternatively a 40 key capacitive touch pad.    AAL Eindhoven MK
EEPROM: 4kB; FLASH: 64kB; RAM: 8kB
footprint SOT618-1
pins: 1 DIO16/COMP1P/SIF_CLK/SPISMOSI, 2 DIO17/COMP1M/SIF_D/SPISMISO, 3 !RESET!, 4 XTAL_OUT (out), 5 XTAL_IN, 6 VB_SYNTH (power), 7 VCOTUNE, 8 VB_VCO (power), 9 30 VDD, 10 IBIAS, 11 VREF/ADC2, 12 VB_RF2 (power), 13 RF_IN, 14 VB_RF1 (power), 15 ADC1, 16 DIO0/SPISEL1/ADC3, 17 DIO1/SPISEL2/ADC4/PC0, 18 DIO2/RFRX/TIM0CK_GT, 19 DIO3/RFTX/TIM0CAP, 20 DO0/SPICLK (out), 21 39 VSS (power), 22 DO1/SPIMISO, 23 DIO18/SPIMOSI, 24 DIO19/SPISEL0, 25 VB_RAM (power), 26 DIO4/CTS0/JTAG_TCK/TIM0OUT/PC0, 27 DIO5/RTS0/JTAG_TMS/PWM1/PC1, 28 DIO6/TXD0/JTAG_TDO/PWM2, 29 DIO7/RXD0/JTAG_TDI/PWM3, 31 DIO8/TIM0CK_GT/PC1/PWM4, 32 DIO9/TIM0CAP/32KXTALIN/RXD1/32KIN, 33 DIO10/TIM0OUT/32KXTALOUT, 34 DIO11/PWM1/TXD1, 35 VB_DIG (power), 36 DIO12/PWM2/CTS0/JTACK_TCK/ADO/SPISMOSI, 37 DIO13/PWM3/RTS0/JTAG_TMS/ADE/SPISMISO, 38 DIO14/SIF_CLK/TXD0-1/JTAG_TDO/SPISEL1/SPISSEL, 40 DIO15/SIF_D/RXD0-1/JTAG_TDI/SPISEL2/SPISCLK, 41 VSSA (power)

## JN5164
designator U?, comment IEEE802.15.4 Wireless Microcontroller The JN516x series is a range of ultra low power, high performance wireless microcontrollers suitable for JenNet-IP, ZigBee PRO, Remote Control, JenNet, and Active RFID applications. They feature an enhanced 32-bit RISC processor with embedded Flash and EEPROM memory, offering high coding efficiency through variable width instructions, a multi-stage instruction pipeline and low power operation with programmable clock speeds. They also include a 2.4GHz IEEE802.15.4 compliant transceiver and a comprehensive mix of analogue and digital peripherals. Three memory configurations are available to suit different applications. The best in class operating current is below 15mA, and, with a 0.6uA sleep timer mode, gives excellent battery life allowing operation direct from a coin cell. The peripherals support a wide range of applications. They include a 2-wire I2C, and SPI ports which can operate as either master or slave, a four channel ADC with battery and a temperature sensor. It can support a large switch matrix of up to 100 elements, or alternatively a 40 key capacitive touch pad.    AAL Eindhoven MK
EEPROM: 4kB; FLASH: 160kB; RAM: 32kB
footprint SOT618-1
pins: 1 DIO16/COMP1P/SIF_CLK/SPISMOSI, 2 DIO17/COMP1M/SIF_D/SPISMISO, 3 !RESET!, 4 XTAL_OUT (out), 5 XTAL_IN, 6 VB_SYNTH (power), 7 VCOTUNE, 8 VB_VCO (power), 9 30 VDD, 10 IBIAS, 11 VREF/ADC2, 12 VB_RF2 (power), 13 RF_IN, 14 VB_RF1 (power), 15 ADC1, 16 DIO0/SPISEL1/ADC3, 17 DIO1/SPISEL2/ADC4/PC0, 18 DIO2/RFRX/TIM0CK_GT, 19 DIO3/RFTX/TIM0CAP, 20 DO0/SPICLK (out), 21 39 VSS (power), 22 DO1/SPIMISO, 23 DIO18/SPIMOSI, 24 DIO19/SPISEL0, 25 VB_RAM (power), 26 DIO4/CTS0/JTAG_TCK/TIM0OUT/PC0, 27 DIO5/RTS0/JTAG_TMS/PWM1/PC1, 28 DIO6/TXD0/JTAG_TDO/PWM2, 29 DIO7/RXD0/JTAG_TDI/PWM3, 31 DIO8/TIM0CK_GT/PC1/PWM4, 32 DIO9/TIM0CAP/32KXTALIN/RXD1/32KIN, 33 DIO10/TIM0OUT/32KXTALOUT, 34 DIO11/PWM1/TXD1, 35 VB_DIG (power), 36 DIO12/PWM2/CTS0/JTACK_TCK/ADO/SPISMOSI, 37 DIO13/PWM3/RTS0/JTAG_TMS/ADE/SPISMISO, 38 DIO14/SIF_CLK/TXD0-1/JTAG_TDO/SPISEL1/SPISSEL, 40 DIO15/SIF_D/RXD0-1/JTAG_TDI/SPISEL2/SPISCLK, 41 VSSA (power)

## JN5168
designator U?, comment Short Description    AAL Eindhoven MK
footprint SOT618-1
pins: 1 DIO16/COMP1P/SIF_CLK/SPISMOSI, 2 DIO17/COMP1M/SIF_D/SPISMISO, 3 !RESET, 4 XTAL_OUT, 5 XTAL_IN, 6 VB_SYNTH, 7 VCOTUNE, 8 VB_VCO, 9 VDD1, 10 IBIAS, 11 VREF/ADC2, 12 VB_RF2, 13 RF_IN, 14 VB_RF1, 15 ADC1, 16 DIO0/SPISEL1/ADC3, 17 DIO1/SPISEL2/ADC4/PC0, 18 DIO2/RFRX/TIM0CK_GT, 19 DIO3/RFRX/TIM0CAP, 20 DO0/SPICLK/PWM2, 21 VSS1, 22 DO1/SPIMISO/PWM3, 23 DIO18/SPIMOSI, 24 DIO19/SPISEL0, 25 VB_RAM, 26 DIO4/CTS0/JTAG_TCK/TIM0OUT/PC0, 27 DIO5/RTS0/JTAG_TMS/PWM1/PC1, 28 DIO6/TXD0/JTAG_TD0/PWM2, 29 DIO7/RXD0/JTAG_TDI/PWM3, 30 VDD2, 31 DIO8/TIM0CK_GT/PC1/PWM4, 32 DIO9/TIM0CAP/32KXTALIN/RXD1/32KIN, 33 DIO10/TIM0OUT/32KXTALOUT, 34 DIO11/PWM1/TXD1, 35 VB_DIG, 36 DIO12/PWM2/CTS0/JTAG_TCK/ADO/SPISMOSI, 37 DIO13/PWM3/RTS0/JTAG_TMS/ADE/SPISMISO, 38 DIO14/SIF_CLK/TXD0TXD1/JTAG_TDO/SPISEL1/SPISEL, 39 VSS2, 40 DIO15/SIF_D/RXD0RXD1/JTAG_TDI/SPIDEL2/SPISCLF, 41 VSSA

## JN5168-001-M00
designator M?, comment JenNet, ZigBee PRO and IEEE802.15.4 Module The JN5168-001-Myy family is a range of ultra low power, high performance surface mount modules targeted at IEEE 802.15.4, JenNet-IP, ZigBee Light Link, ZigBee Smart Energy and RF4CE networking applications, enabling users to realise products with minimum time to market and at the lowest cost.  They remove the need for expensive and lengthy development of custom RF board designs and test suites. The modules use NXP’s JN5168 wireless microcontroller to provide a comprehensive solution with large memory, high CPU and radio performance and all RF components included.  All that is required to develop and manufacture wireless control or sensing products is to connect a power supply and peripherals such as switches, actuators and sensors, considerably simplifying product development. Four module variants are available: JN5168-001-M00 with an integrated antenna, JN5168-001- M03 with an antenna connector and the JN5168-001-M05 and M06 with an antenna connector, power amplifier and LNA for extended range. The JN5168-001-M05 output power has been optimised for use in Europe and Asia.    AAL Eindhoven MK
DIO2: OK; DIO3: OK
footprint JN5168-001-M00
pins: 1 ADC1, 2 SPICLK (out), 3 SPIMISO, 4 SPIMOSI, 5 SPISSZ (out), 6 DIO0/SPISEL1/ADC3, 7 DIO1/SPISEL2/ADC4/PC0, 8 DIO2/RFRX/TIM0CK_GT, 9 DIO3/RFTX/TIM0CAP, 10 DIO4/CTS0/JTAG_TCK/TIM0OUT/PC0, 11 DIO5/RTS0/JTAG_TMS/PWM1/PC1, 12 DIO6/TXD0/JTAG_TDO/PWM2, 13 DIO7/RXD0/JTAG_TDI/PWM3, 14 DIO8/TIM0CK_GT/PC1/PWM4, 15 DIO9/TIM0CAP/32KXTALIN/RXD1/32KIN, 16 DIO10/TIM0OUT/32KXTALOUT, 17 VDD, 18 VSS (power), 19 DIO11/PWM1/TXD1, 20 DIO12/PWM2/CTS0/JTACK_TCK/ADO/SPISMOSI, 21 DIO13/PWM3/RTS0/JTAG_TMS/ADE/SPISMISO, 22 !RESET!, 23 DIO14/SIF_CLK/TXD0-1/JTAG_TDO/SPISEL1/SPISSEL, 24 DIO15/SIF_D/RXD0-1/JTAG_TDI/SPISEL2/SPISCLK, 25 DIO16/COMP1P/SIF_CLK/SPISMOSI, 26 DIO17/COMP1M/SIF_D/SPISMISO, 27 ADC2

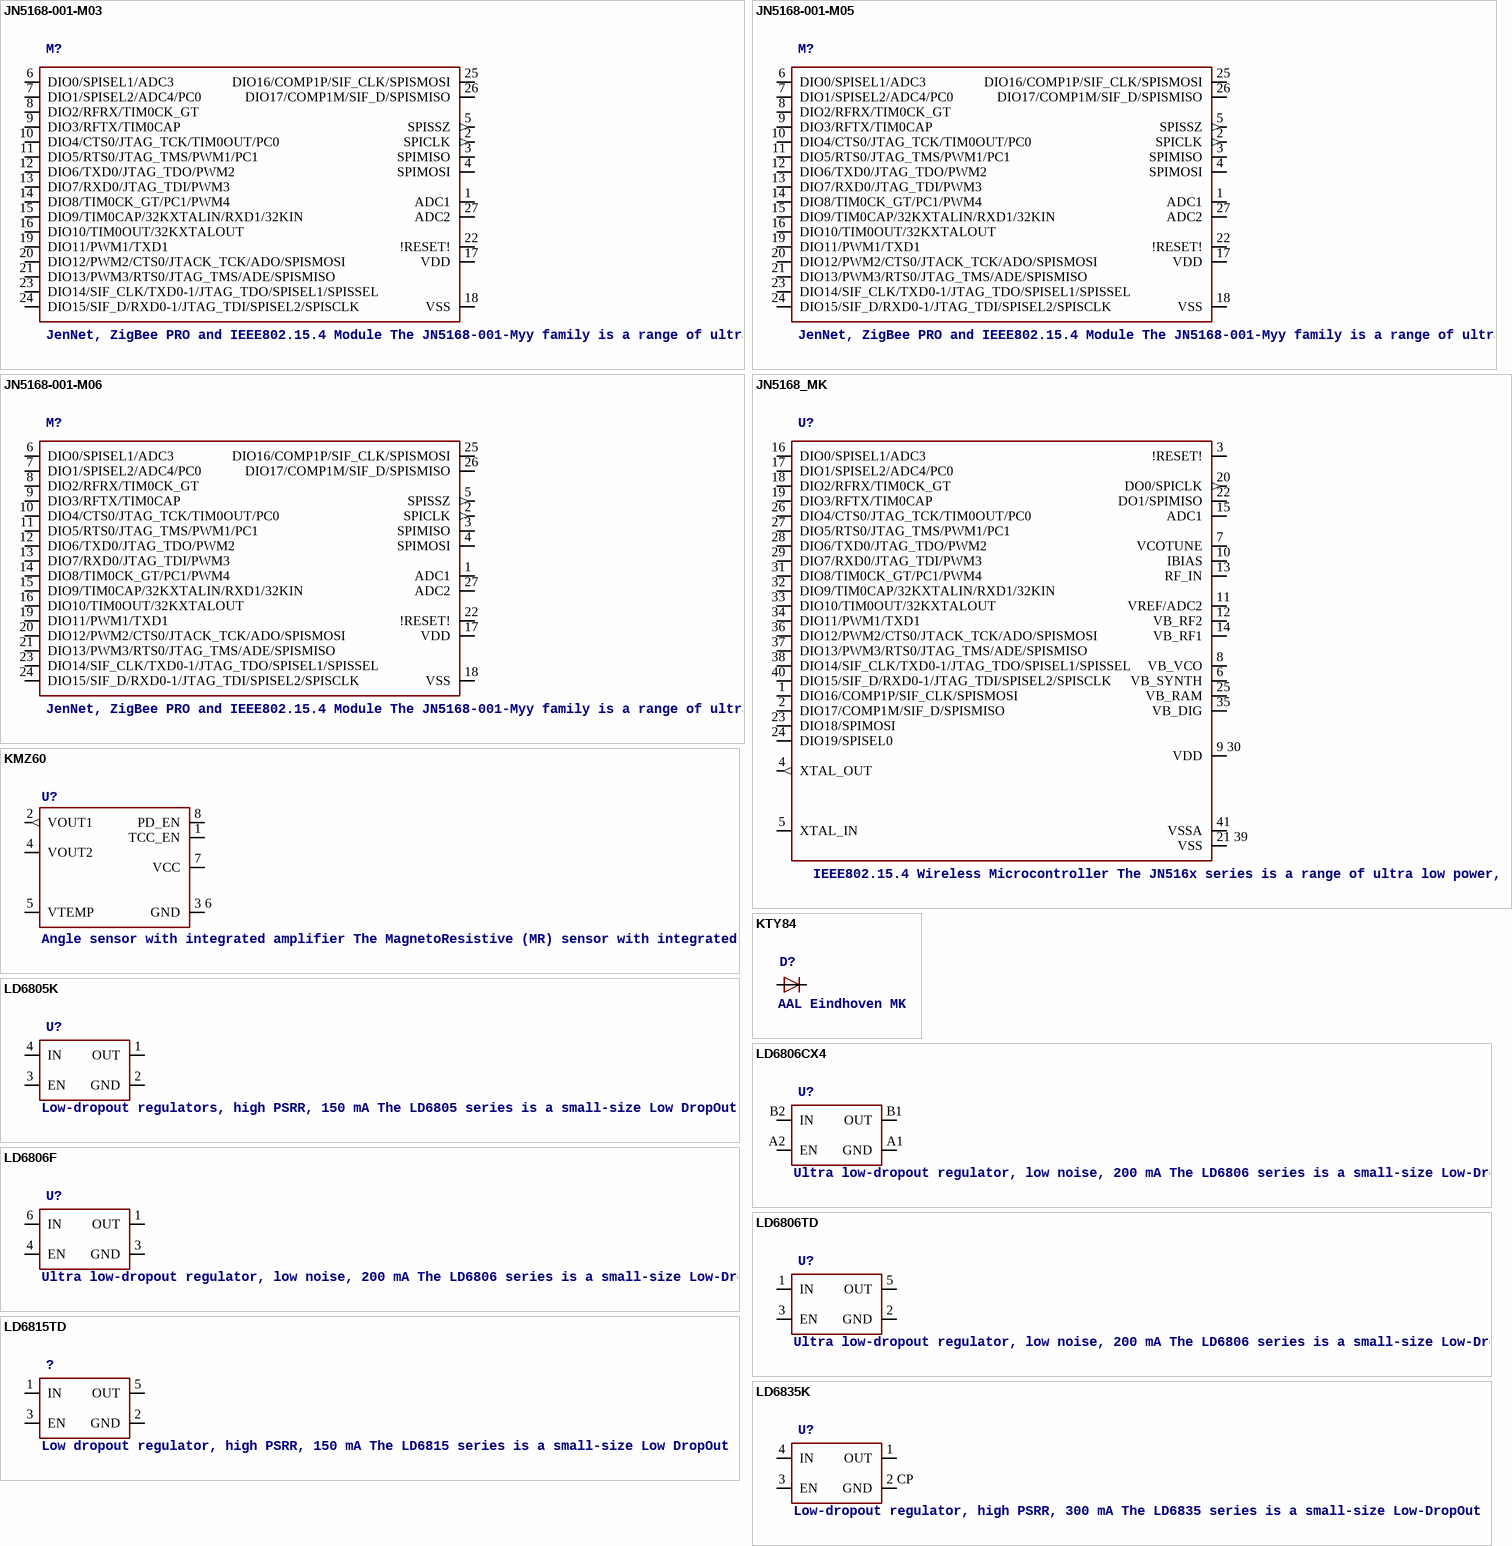
[diagram p38: symbols JN5168-001-M03 to LD6835K]

## JN5168-001-M03
designator M?, comment JenNet, ZigBee PRO and IEEE802.15.4 Module The JN5168-001-Myy family is a range of ultra low power, high performance surface mount modules targeted at IEEE 802.15.4, JenNet-IP, ZigBee Light Link, ZigBee Smart Energy and RF4CE networking applications, enabling users to realise products with minimum time to market and at the lowest cost.  They remove the need for expensive and lengthy development of custom RF board designs and test suites. The modules use NXP’s JN5168 wireless microcontroller to provide a comprehensive solution with large memory, high CPU and radio performance and all RF components included.  All that is required to develop and manufacture wireless control or sensing products is to connect a power supply and peripherals such as switches, actuators and sensors, considerably simplifying product development. Four module variants are available: JN5168-001-M00 with an integrated antenna, JN5168-001- M03 with an antenna connector and the JN5168-001-M05 and M06 with an antenna connector, power amplifier and LNA for extended range. The JN5168-001-M05 output power has been optimised for use in Europe and Asia.    AAL Eindhoven MK
DIO2: OK; DIO3: OK
footprint JN5168-001-M03
pins: 1 ADC1, 2 SPICLK (out), 3 SPIMISO, 4 SPIMOSI, 5 SPISSZ (out), 6 DIO0/SPISEL1/ADC3, 7 DIO1/SPISEL2/ADC4/PC0, 8 DIO2/RFRX/TIM0CK_GT, 9 DIO3/RFTX/TIM0CAP, 10 DIO4/CTS0/JTAG_TCK/TIM0OUT/PC0, 11 DIO5/RTS0/JTAG_TMS/PWM1/PC1, 12 DIO6/TXD0/JTAG_TDO/PWM2, 13 DIO7/RXD0/JTAG_TDI/PWM3, 14 DIO8/TIM0CK_GT/PC1/PWM4, 15 DIO9/TIM0CAP/32KXTALIN/RXD1/32KIN, 16 DIO10/TIM0OUT/32KXTALOUT, 17 VDD, 18 VSS (power), 19 DIO11/PWM1/TXD1, 20 DIO12/PWM2/CTS0/JTACK_TCK/ADO/SPISMOSI, 21 DIO13/PWM3/RTS0/JTAG_TMS/ADE/SPISMISO, 22 !RESET!, 23 DIO14/SIF_CLK/TXD0-1/JTAG_TDO/SPISEL1/SPISSEL, 24 DIO15/SIF_D/RXD0-1/JTAG_TDI/SPISEL2/SPISCLK, 25 DIO16/COMP1P/SIF_CLK/SPISMOSI, 26 DIO17/COMP1M/SIF_D/SPISMISO, 27 ADC2

## JN5168-001-M05
designator M?, comment JenNet, ZigBee PRO and IEEE802.15.4 Module The JN5168-001-Myy family is a range of ultra low power, high performance surface mount modules targeted at IEEE 802.15.4, JenNet-IP, ZigBee Light Link, ZigBee Smart Energy and RF4CE networking applications, enabling users to realise products with minimum time to market and at the lowest cost.  They remove the need for expensive and lengthy development of custom RF board designs and test suites. The modules use NXP’s JN5168 wireless microcontroller to provide a comprehensive solution with large memory, high CPU and radio performance and all RF components included.  All that is required to develop and manufacture wireless control or sensing products is to connect a power supply and peripherals such as switches, actuators and sensors, considerably simplifying product development. Four module variants are available: JN5168-001-M00 with an integrated antenna, JN5168-001- M03 with an antenna connector and the JN5168-001-M05 and M06 with an antenna connector, power amplifier and LNA for extended range. The JN5168-001-M05 output power has been optimised for use in Europe and Asia.    AAL Eindhoven MK
DIO2: x; DIO3: x
footprint JN5168-001-M06
pins: 1 ADC1, 2 SPICLK (out), 3 SPIMISO, 4 SPIMOSI, 5 SPISSZ (out), 6 DIO0/SPISEL1/ADC3, 7 DIO1/SPISEL2/ADC4/PC0, 8 DIO2/RFRX/TIM0CK_GT, 9 DIO3/RFTX/TIM0CAP, 10 DIO4/CTS0/JTAG_TCK/TIM0OUT/PC0, 11 DIO5/RTS0/JTAG_TMS/PWM1/PC1, 12 DIO6/TXD0/JTAG_TDO/PWM2, 13 DIO7/RXD0/JTAG_TDI/PWM3, 14 DIO8/TIM0CK_GT/PC1/PWM4, 15 DIO9/TIM0CAP/32KXTALIN/RXD1/32KIN, 16 DIO10/TIM0OUT/32KXTALOUT, 17 VDD, 18 VSS (power), 19 DIO11/PWM1/TXD1, 20 DIO12/PWM2/CTS0/JTACK_TCK/ADO/SPISMOSI, 21 DIO13/PWM3/RTS0/JTAG_TMS/ADE/SPISMISO, 22 !RESET!, 23 DIO14/SIF_CLK/TXD0-1/JTAG_TDO/SPISEL1/SPISSEL, 24 DIO15/SIF_D/RXD0-1/JTAG_TDI/SPISEL2/SPISCLK, 25 DIO16/COMP1P/SIF_CLK/SPISMOSI, 26 DIO17/COMP1M/SIF_D/SPISMISO, 27 ADC2

## JN5168-001-M06
designator M?, comment JenNet, ZigBee PRO and IEEE802.15.4 Module The JN5168-001-Myy family is a range of ultra low power, high performance surface mount modules targeted at IEEE 802.15.4, JenNet-IP, ZigBee Light Link, ZigBee Smart Energy and RF4CE networking applications, enabling users to realise products with minimum time to market and at the lowest cost.  They remove the need for expensive and lengthy development of custom RF board designs and test suites. The modules use NXP’s JN5168 wireless microcontroller to provide a comprehensive solution with large memory, high CPU and radio performance and all RF components included.  All that is required to develop and manufacture wireless control or sensing products is to connect a power supply and peripherals such as switches, actuators and sensors, considerably simplifying product development. Four module variants are available: JN5168-001-M00 with an integrated antenna, JN5168-001- M03 with an antenna connector and the JN5168-001-M05 and M06 with an antenna connector, power amplifier and LNA for extended range. The JN5168-001-M05 output power has been optimised for use in Europe and Asia.    AAL Eindhoven MK
DIO2: x; DIO3: x
footprint JN5168-001-M06
pins: 1 ADC1, 2 SPICLK (out), 3 SPIMISO, 4 SPIMOSI, 5 SPISSZ (out), 6 DIO0/SPISEL1/ADC3, 7 DIO1/SPISEL2/ADC4/PC0, 8 DIO2/RFRX/TIM0CK_GT, 9 DIO3/RFTX/TIM0CAP, 10 DIO4/CTS0/JTAG_TCK/TIM0OUT/PC0, 11 DIO5/RTS0/JTAG_TMS/PWM1/PC1, 12 DIO6/TXD0/JTAG_TDO/PWM2, 13 DIO7/RXD0/JTAG_TDI/PWM3, 14 DIO8/TIM0CK_GT/PC1/PWM4, 15 DIO9/TIM0CAP/32KXTALIN/RXD1/32KIN, 16 DIO10/TIM0OUT/32KXTALOUT, 17 VDD, 18 VSS (power), 19 DIO11/PWM1/TXD1, 20 DIO12/PWM2/CTS0/JTACK_TCK/ADO/SPISMOSI, 21 DIO13/PWM3/RTS0/JTAG_TMS/ADE/SPISMISO, 22 !RESET!, 23 DIO14/SIF_CLK/TXD0-1/JTAG_TDO/SPISEL1/SPISSEL, 24 DIO15/SIF_D/RXD0-1/JTAG_TDI/SPISEL2/SPISCLK, 25 DIO16/COMP1P/SIF_CLK/SPISMOSI, 26 DIO17/COMP1M/SIF_D/SPISMISO, 27 ADC2

## JN5168_MK
designator U?, comment IEEE802.15.4 Wireless Microcontroller The JN516x series is a range of ultra low power, high performance wireless microcontrollers suitable for JenNet-IP, ZigBee PRO, Remote Control, JenNet, and Active RFID applications. They feature an enhanced 32-bit RISC processor with embedded Flash and EEPROM memory, offering high coding efficiency through variable width instructions, a multi-stage instruction pipeline and low power operation with programmable clock speeds. They also include a 2.4GHz IEEE802.15.4 compliant transceiver and a comprehensive mix of analogue and digital peripherals. Three memory configurations are available to suit different applications. The best in class operating current is below 15mA, and, with a 0.6uA sleep timer mode, gives excellent battery life allowing operation direct from a coin cell. The peripherals support a wide range of applications. They include a 2-wire I2C, and SPI ports which can operate as either master or slave, a four channel ADC with battery and a temperature sensor. It can support a large switch matrix of up to 100 elements, or alternatively a 40 key capacitive touch pad.    AAL Eindhoven MK
EEPROM: 4kB; FLASH: 256kB; RAM: 32kB
footprint SOT618-1
pins: 1 DIO16/COMP1P/SIF_CLK/SPISMOSI, 2 DIO17/COMP1M/SIF_D/SPISMISO, 3 !RESET!, 4 XTAL_OUT (out), 5 XTAL_IN, 6 VB_SYNTH (power), 7 VCOTUNE, 8 VB_VCO (power), 9 30 VDD, 10 IBIAS, 11 VREF/ADC2, 12 VB_RF2 (power), 13 RF_IN, 14 VB_RF1 (power), 15 ADC1, 16 DIO0/SPISEL1/ADC3, 17 DIO1/SPISEL2/ADC4/PC0, 18 DIO2/RFRX/TIM0CK_GT, 19 DIO3/RFTX/TIM0CAP, 20 DO0/SPICLK (out), 21 39 VSS (power), 22 DO1/SPIMISO, 23 DIO18/SPIMOSI, 24 DIO19/SPISEL0, 25 VB_RAM (power), 26 DIO4/CTS0/JTAG_TCK/TIM0OUT/PC0, 27 DIO5/RTS0/JTAG_TMS/PWM1/PC1, 28 DIO6/TXD0/JTAG_TDO/PWM2, 29 DIO7/RXD0/JTAG_TDI/PWM3, 31 DIO8/TIM0CK_GT/PC1/PWM4, 32 DIO9/TIM0CAP/32KXTALIN/RXD1/32KIN, 33 DIO10/TIM0OUT/32KXTALOUT, 34 DIO11/PWM1/TXD1, 35 VB_DIG (power), 36 DIO12/PWM2/CTS0/JTACK_TCK/ADO/SPISMOSI, 37 DIO13/PWM3/RTS0/JTAG_TMS/ADE/SPISMISO, 38 DIO14/SIF_CLK/TXD0-1/JTAG_TDO/SPISEL1/SPISSEL, 40 DIO15/SIF_D/RXD0-1/JTAG_TDI/SPISEL2/SPISCLK, 41 VSSA (power)

## KMZ60
designator U?, comment Angle sensor with integrated amplifier The MagnetoResistive (MR) sensor with integrated amplifier is designed for angular control applications and BrushLess DC (BLDC) motors with even-numbered pole pairs. It consists of two microchips within one package, an angle sensor and an amplifier Integrated Circuit (IC). The circuit delivers cosine and sine output signals related to the angle of a rotating magnetic field. The output voltage range is ratiometric related to the supply voltage. The Temperature Coefficient (TC) of the sensor amplitude can be compensated. A ratiometric output voltage linear to the temperature is delivered. A Power-down mode is implemented.    AAL Eindhoven MK
footprint SOT96-1
pins: 1 TCC_EN, 2 VOUT1 (out), 3 6 GND (power), 4 VOUT2, 5 VTEMP, 7 VCC, 8 PD_EN

## KTY84
designator D?, comment AAL Eindhoven MK
footprint SOD68
pins: A, C K

## LD6805K
designator U?, comment Low-dropout regulators, high PSRR, 150 mA The LD6805 series is a small-size Low DropOut regulator (LDO) family with ultra high Power Supply Rejection Ratio (PSRR) of 75 dB. The voltage drop is 250 mV at 150 mA current rating. Operating voltages can range from 2.3 V to 5.5 V. The devices are available with fixed output voltages between 1.2 V to 3.6 V. The LD6805K/xxH devices show a high-ohmic state at the output pin when set to disabled mode. The LD6805K/xxP devices contain a pull-down switching transistor to provide a low-ohmic output state (auto discharge function) in disabled mode. The LD6805 series devices are available in a 1 x 1 mm DFN plastic package making them ideal for use in portable applications requiring component miniaturization. All devices are manufactured in monolithic silicon technology.   AAL Eindhoven MK
footprint SOT1194-1
pins: 1 OUT, 2 GND (power), 3 EN, 4 IN

## LD6806CX4
designator U?, comment Ultra low-dropout regulator, low noise, 200 mA The LD6806 series is a small-size Low-DropOut regulator (LDO) family with a typical voltage drop of 60 mV at 200 mA current rating. The device is available in three different surface-mounted packages, one 0.4 mm pitch CSP, one leadless plastic package SOT886 and one gull wing package SOT753. The operating voltage ranges from 2.3 V to 5.5 V and the output voltage ranges from 1.2 V to 3.6 V. LD6806x/xxH devices show a high-ohmic state at the output pin, while the LD6806x/xxP contains a pull-down switching transistor, to provide a low-ohmic output stage when the device is disabled. All devices use the same regulator design and are manufactured in monolithic silicon technology. These features make the LD6806 series ideal for use in applications requiring component miniaturization, such as mobile phone handsets, cordless telephones and personal digital devices.
footprint NX3P190/NX3P191
pins: A1 GND (power), A2 EN, B1 OUT, B2 IN

## LD6806F
designator U?, comment Ultra low-dropout regulator, low noise, 200 mA The LD6806 series is a small-size Low-DropOut regulator (LDO) family with a typical voltage drop of 60 mV at 200 mA current rating. The device is available in three different surface-mounted packages, one 0.4 mm pitch CSP, one leadless plastic package SOT886 and one gull wing package SOT753. The operating voltage ranges from 2.3 V to 5.5 V and the output voltage ranges from 1.2 V to 3.6 V. LD6806x/xxH devices show a high-ohmic state at the output pin, while the LD6806x/xxP contains a pull-down switching transistor, to provide a low-ohmic output stage when the device is disabled. All devices use the same regulator design and are manufactured in monolithic silicon technology. These features make the LD6806 series ideal for use in applications requiring component miniaturization, such as mobile phone handsets, cordless telephones and personal digital devices.
footprint SOT886
pins: 1 OUT, 3 GND (power), 4 EN, 6 IN

## LD6806TD
designator U?, comment Ultra low-dropout regulator, low noise, 200 mA The LD6806 series is a small-size Low-DropOut regulator (LDO) family with a typical voltage drop of 60 mV at 200 mA current rating. The device is available in three different surface-mounted packages, one 0.4 mm pitch CSP, one leadless plastic package SOT886 and one gull wing package SOT753. The operating voltage ranges from 2.3 V to 5.5 V and the output voltage ranges from 1.2 V to 3.6 V. LD6806x/xxH devices show a high-ohmic state at the output pin, while the LD6806x/xxP contains a pull-down switching transistor, to provide a low-ohmic output stage when the device is disabled. All devices use the same regulator design and are manufactured in monolithic silicon technology. These features make the LD6806 series ideal for use in applications requiring component miniaturization, such as mobile phone handsets, cordless telephones and personal digital devices.
footprint SOT753
pins: 1 IN, 2 GND (power), 3 EN, 5 OUT

## LD6815TD
designator ?, comment Low dropout regulator, high PSRR, 150 mA The LD6815 series is a small-size Low DropOut regulator (LDO) family with ultra high Power Supply Rejection Ratio (PSRR) of 75 dB. The voltage drop is 250 mV at 150 mA current rating. Operating voltages can range from 2.3 V to 5.5 V. The devices are available with fixed output voltages between 1.2 V and 3.6 V. The LD6815TD/xxH devices show a high-ohmic state at the output pin when set to disabled mode. The LD6815TD/xxP devices contain a pull-down switching transistor to provide a low-ohmic output state (auto discharge function) in disabled mode. The LD6815 series devices are available in SOT753 (TSOP5) plastic package. All devices are manufactured in monolithic silicon technology.    AAL Eindhoven MK
12NC: 9340 667 69125; VOLTAGE: 1.2V; 12NC: 9340 667 79125; 12NC: 9340 667 71125; VOLTAGE: 1.5V; 12NC: 9340 667 81125; 12NC: 9340 667 72125; VOLTAGE: 1.8V; 12NC: 9340 667 82125; 12NC: 9340 671 26125; VOLTAGE: 2.1V; 12NC: 9340 669 71125; 12NC: 9340 667 73125; VOLTAGE: 2.5V; 12NC: 9340 667 83125; 12NC: 9340 667 74125; VOLTAGE: 2.8V; 12NC: 9340 667 84125; 12NC: 9340 667 75125; VOLTAGE: 2.9V; 12NC: 9340 667 85125; 12NC: 9340 667 76125; VOLTAGE: 3.0V; 12NC: 9340 667 86125; 12NC: 9340 667 77125; VOLTAGE: 3.3V; 12NC: 9340 667 87125; 12NC: 9340 667 78125; VOLTAGE: 3.6V; 12NC: 9340 667 88125; IMPEDANCE: high; IMPEDANCE: low
footprint SOT753
pins: 1 IN, 2 GND (power), 3 EN, 5 OUT

## LD6835K
designator U?, comment Low-dropout regulator, high PSRR, 300 mA The LD6835 series is a small-size Low-DropOut (LDO) regulator family with a high-Power Supply Rejection Ratio (PSRR) of 75 dB and a voltage drop of 240 mV at 300 mA current rating. Operating voltages range from 1.75 V to 5.5 V. The products are available with fixed nominal output voltages VO(nom) between 1.2 V and 3.6 V. The LD6835 series products are available in a DFN1010C-4 (SOT1194-1) plastic package with a size of 1 mm  1 mm  0.55 mm. The devices are ideal for use in portable applications requiring component miniaturization.    AAL Eindhoven MK
HIGH_OHMIC: yes; OUTPUT: 1V2; HIGH_OHMIC: no; OUTPUT: 1V5; OUTPUT: 1V8; OUTPUT: 2V2; OUTPUT: 2V5; OUTPUT: 2V85; OUTPUT: 2V8; OUTPUT: 2V9; OUTPUT: 3V0; OUTPUT: 3V1; OUTPUT: 3V3
footprint SOT1194-1
pins: 1 OUT, 2 CP GND (power), 3 EN, 4 IN

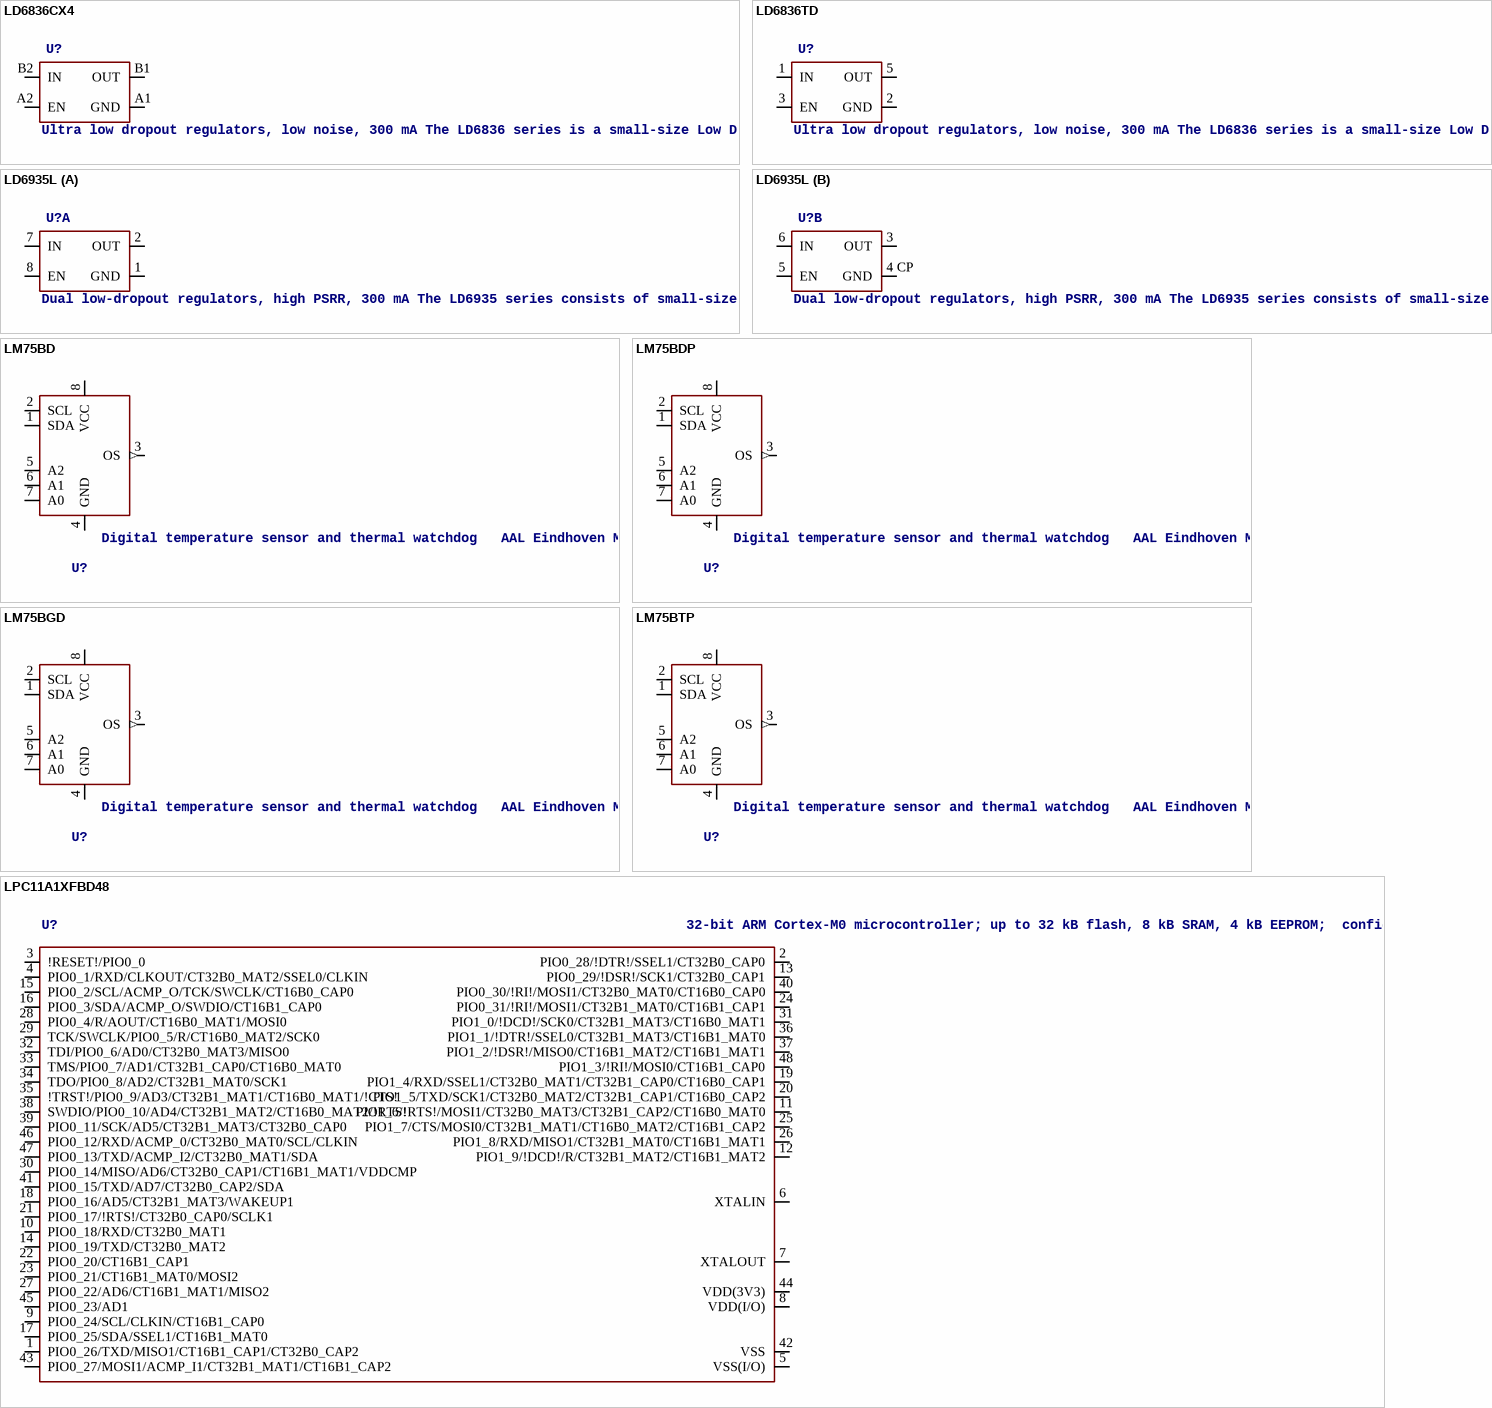
[diagram p39: symbols LD6836CX4 to LPC11A1XFBD48]

## LD6836CX4
designator U?, comment Ultra low dropout regulators, low noise, 300 mA The LD6836 series is a small-size Low DropOut regulator (LDO) family with a typical voltage drop of 90 mV at 300 mA current rating. Operating input voltages can range from 2.3 V to 5.5 V. The devices are available with fixed output voltages between 1.2 V and 3.6 V. In disabled mode the LD6836x/xxH devices show a high-ohmic state at the output pin while the LD6836x/xxP devices contain a pull-down switching transistor to provide a low-ohmic output state (auto discharge function). The LD6836CX4 and LD6836CX4/C devices are in a 0.4 mm pitch Wafer-Level Chip-Scale Package (WLCSP) making them ideal for use in portable applications requiring component miniaturization. The LD6836TD devices are in a small SOT753 Surface-Mounted Device (SMD) plastic package. All devices are manufactured in monolithic silicon technology.    AAL Eindhoven MK
HIGH_OHMIC: yes; OUTPUT: 1V2; HIGH_OHMIC: no; OUTPUT: 1V4; OUTPUT: 1V6; OUTPUT: 1V8; OUTPUT: 2V0; OUTPUT: 2V1; OUTPUT: 2V2; OUTPUT: 2v3; OUTPUT: 2V5; OUTPUT: 2V7; OUTPUT: 2V8; OUTPUT: 2V9; OUTPUT: 3V0; OUTPUT: 3V3; OUTPUT: 3V6; OUTPUT: 2V3
footprint WLCSP4
pins: A1 GND (power), A2 EN, B1 OUT, B2 IN

## LD6836TD
designator U?, comment Ultra low dropout regulators, low noise, 300 mA The LD6836 series is a small-size Low DropOut regulator (LDO) family with a typical voltage drop of 90 mV at 300 mA current rating. Operating input voltages can range from 2.3 V to 5.5 V. The devices are available with fixed output voltages between 1.2 V and 3.6 V. In disabled mode the LD6836x/xxH devices show a high-ohmic state at the output pin while the LD6836x/xxP devices contain a pull-down switching transistor to provide a low-ohmic output state (auto discharge function). The LD6836CX4 and LD6836CX4/C devices are in a 0.4 mm pitch Wafer-Level Chip-Scale Package (WLCSP) making them ideal for use in portable applications requiring component miniaturization. The LD6836TD devices are in a small SOT753 Surface-Mounted Device (SMD) plastic package. All devices are manufactured in monolithic silicon technology.    AAL Eindhoven MK
HIGH_OHMIC: yes; OUTPUT: 1V2; HIGH_OHMIC: no; OUTPUT: 1V4; OUTPUT: 1V6; OUTPUT: 1V8; OUTPUT: 2V0; OUTPUT: 2V1; OUTPUT: 2V2; OUTPUT: 2v3; OUTPUT: 2V5; OUTPUT: 2V7; OUTPUT: 2V8; OUTPUT: 2V9; OUTPUT: 3V0; OUTPUT: 3V3; OUTPUT: 3V6; OUTPUT: 2V3
footprint SOT753
pins: 1 IN, 2 GND (power), 3 EN, 5 OUT